# Altium schematic symbol library 2020-05-09_23-14-20.SchLib: 2 symbols
Pins are listed as number, name and electrical type; pins without a type are passive.

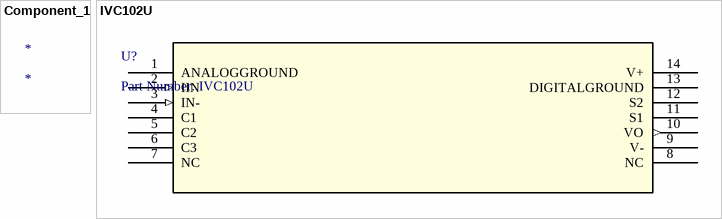
[diagram p0: symbols Component_1 to IVC102U]

## Component_1
designator *

## IVC102U
designator U?, comment Part Number: IVC102U
Precision Switched Integrator Transimpedance Amplifier; Manufacturer: Texas Instruments; GENERIC_PART_NUMBER: IVC102; INDUSTRY_STD_PKG_TYPE: SOIC; FAMILY_NAME: LOW INPUT BIAS CURRENT/FET INPUT; PIN_COUNT: 14; PACKAGE_DESIGNATOR: D; Datasheet_URL: http://www.ti.com/lit/gpn/IVC102; Vendor: Texas Instruments; Manufacturer_Part_Number: IVC102U; Copyright: Copyright (C) 2018 Accelerated Designs. All rights reserved; RefDes: RefDes; Type: DEV; Value: Value
footprint D14
pins: 1 ANALOGGROUND (power), 2 IIN (in), 3 IN- (in), 4 C1, 5 C2, 6 C3, 7 NC, 8 NC, 9 V- (power), 10 VO (out), 11 S1, 12 S2, 13 DIGITALGROUND (power), 14 V+ (power)